# Altium schematic symbol library Switch.SchLib: 28 symbols
Pins are listed as number, name and electrical type; pins without a type are passive.

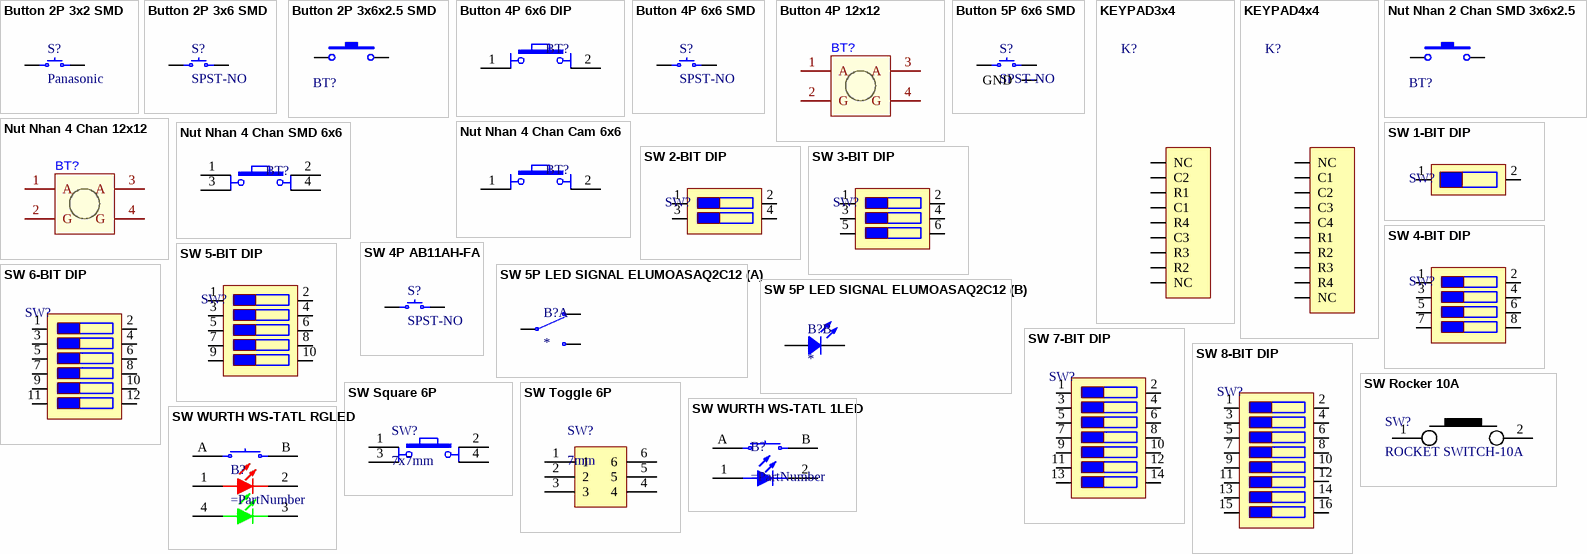
[diagram p0: symbols Button 2P 3x2 SMD to SW WURTH WS-TATL RGLED]

## Button 2P 3x2 SMD
designator S?, comment Panasonic
Tactile Switches Type EVPAW
footprint Panasonic EVPAW
pins: 1 A, 2 B

## Button 2P 3x6 SMD
designator S?, comment SPST-NO
footprint TE FSMSMTR
pins: 1, 2

## Button 2P 3x6x2.5 SMD
designator BT?
Button 2Pin 3x6x2.5 SMD; Ma_Hang: MH001036; Ten: Nút Nhấn 2 Chân 3x6x2.5MM SMD
footprint Nut Nhan 2 Chan SMD 3x6x2.5 (Footprint not found)
pins: 1, 2

## Button 4P 6x6 DIP
designator BT?
Button 4pin 6x6 DIP; Ten: Nút Nhấn 4 Chân 6x6x5MM DIP; Ma_Hang: MH004584
footprint Nut Nhan 4 Chan Cam 6x6 (Footprint not found)
pins: 1, 2

## Button 4P 6x6 SMD
designator S?, comment SPST-NO
footprint BUTTON 4P 6x6 SMD
pins: 1, 2, 3, 4

## Button 4P 12x12
designator BT?, comment 12x12mm  (value not drawn)
Button 4P 12x12
footprint 12X12 BUTTOM Blue
footprint 12X12 BUTTOM green
footprint 12X12 BUTTOM red
pins: 1 A, 2 G, 3 A, 4 G

## Button 5P 6x6 SMD
designator S?, comment SPST-NO
footprint Button 5p 6x6 SMD
pins: 1, 2, 3, 4, 5 GND

## KEYPAD3x4
designator K?, comment Keypad 3x4  (value not drawn)
Cắm; Ten_Linh_Kien: Jump Đơn Cái 2.54MM 1x20P Thẳng; Don_Vi: Con; Ma_Hang: MH004006; Ghi_Chu: *; Kieu_Chan: *; Chung_Loai: Cắm
footprint KEYPAD3x4
pins: 1 NC, 2 C2, 3 R1, 4 C1, 5 R4, 6 C3, 7 R3, 8 R2, 9 NC

## KEYPAD4x4
designator K?, comment KeyPad 4x4  (value not drawn)
Cắm; Ten_Linh_Kien: Jump Đơn Cái 2.54MM 1x20P Thẳng; Don_Vi: Con; Ma_Hang: MH004006; Ghi_Chu: *; Kieu_Chan: *; Chung_Loai: Cắm
footprint KEYPAD4x4
pins: 1 NC, 2 C1, 3 C2, 4 C3, 5 C4, 6 R1, 7 R2, 8 R3, 9 R4, 10 NC

## Nut Nhan 2 Chan SMD 3x6x2.5
designator BT?
Nut Nhan 2 Chan SMD 3x6x2.5; Ma_Hang: MH001036; Ten: Nút Nhấn 2 Chân 3x6x2.5MM SMD
footprint Nut Nhan 2 Chan SMD 3x6x2.5 (Footprint not found)
pins: 1, 2

## Nut Nhan 4 Chan 12x12
designator BT?, comment Nut Nhan 4 chan 12x12  (value not drawn)
footprint 12X12 BUTTOM Blue
footprint 12X12 BUTTOM green
footprint 12X12 BUTTOM red
pins: 1 A, 2 G, 3 A, 4 G

## Nut Nhan 4 Chan Cam 6x6
designator BT?
Nut Nhan 4 Chan 6x6mm; Ten: Nút Nhấn 4 Chân 6x6x5MM DIP; Ma_Hang: MH004584
footprint Nut Nhan 4 Chan Cam 6x6 (Footprint not found)
pins: 1, 2

## Nut Nhan 4 Chan SMD 6x6
designator BT?
Nut Nhan 4 Chan 6.2x6.2x3.5; Ten: Nút Nhấn 4 Chân 6.2x6.2x3.1MM SMD; Ma_Hang: MH002424
footprint Nut Nhan 4 Chan SMD 6x6 (Footprint not found)
pins: 1, 2, 3, 4

## SW 1-BIT DIP
designator SW?  (value not drawn)
SW 1-BIT DIP
footprint SW 1-BIT DIP
pins: 1 A, 2

## SW 2-BIT DIP
designator SW?  (value not drawn)
SW 2-BIT DIP
footprint SW 2-BIT DIP
pins: 1 A, 2, 3, 4

## SW 3-BIT DIP
designator SW?  (value not drawn)
SW 3-BIT DIP
footprint SW 3-BIT DIP
pins: 1 A, 2, 3, 4, 5, 6

## SW 4-BIT DIP
designator SW?  (value not drawn)
SW 4-BIT DIP
footprint SW 4-BIT DIP
pins: 1 A, 2, 3, 4, 5, 6, 7, 8

## SW 4P AB11AH-FA
designator S?, comment SPST-NO
SWITCH PUSH SPST-NO 0.4VA 28V; Manufacturer: NKK Switches; Manufacturer Product Number: AB11AH-HC; DigiKey Part Number: 360-2604-ND
footprint NKK AB11AH-HA
footprint NKK AB11AH-HC
pins: 1, 3

## SW 5-BIT DIP
designator SW?  (value not drawn)
SW 5-BIT DIP
footprint SW 5-BIT DIP
pins: 1 A, 2, 3, 4, 5, 6, 7, 8, 9, 10

## SW 5P LED SIGNAL ELUMOASAQ2C12
designator B?
SWITCH PUSH SPDT 0.25A 50V; Manufacturer: C&K; Manufacturer Product Number: ELUMOASAQ2C12; DigiKey Part Number: CKN9035TR-ND
footprint C&K ELUMOASAQ2C12
part A pins: 2 NO, 3 C, 4 NC
part B pins: 1 C, 5 A

## SW 6-BIT DIP
designator SW?  (value not drawn)
SW 6-BIT DIP
footprint SW 6-BIT DIP
pins: 1 A, 2, 3, 4, 5, 6, 7, 8, 9, 10, 11, 12

## SW 7-BIT DIP
designator SW?  (value not drawn)
SW 7-BIT DIP
footprint SW 7-BIT DIP
pins: 1 A, 2, 3, 4, 5, 6, 7, 8, 9, 10, 11, 12, 13, 14

## SW 8-BIT DIP
designator SW?  (value not drawn)
SW 8-BIT DIP
footprint SW 8-BIT DIP
pins: 1 A, 2, 3, 4, 5, 6, 7, 8, 9, 10, 11, 12, 13, 14, 15, 16

## SW Rocker 10A
designator SW?, comment ROCKET SWITCH-10A
Rocker Switch SPDT 10A (AC) 125V Panel Mount, Snap-In; Manufacturer: ITT C&K; Manufacturer Part Number: SRB23A2BBBNN; Alternate Part Number-1: NA; Case/Package: TH; Supplier-1: SP ROAD; Supplier Part Number-1: SRB23A2BBBNN
footprint SW_2ARS_TH
pins: 1, 2

## SW Square 6P
designator SW?, comment 7x7mm
Tactile/Latching Switches MINI PUSH BUTTON SWITCH 4-PIN; Manufacturer: Gravitech; Manufacturer Part Number: BUTT-4; Alternate Part Number-1: NA; Case/Package: TH; Supplier-1: SP ROAD; Supplier Part Number-1: BUTT-4
footprint SW_70_31.5D47_TH_ST
pins: 1, 2, 3, 4

## SW Toggle 6P
designator SW?, comment 7mm
PCB Mountable Slide Switch. Double Pole, Double Throw = DPDT; Manufacturer: NA; Manufacturer Part Number: NA; Supplier-1: Sunrom; Supplier Part Number-1: 5261; Case/Package: SMD; Alternate Part Number-1: NA
footprint SW_2P2T-DPDT_SMD (PCB Mountable Slide Switch. Double Pole, Double Throw = DPDT)
pins: 1, 2, 3, 4, 5, 6

## SW WURTH WS-TATL 1LED
designator B?
footprint WURTH WS-TATL 440__67082622
pins: 1, 2, A, B

## SW WURTH WS-TATL RGLED
designator B?
footprint WURTH WS-TATL 440__67082622
pins: 1, 2, 3, 4, A, B